# Altium footprint library Components - 08.07.23 - 16.41.PcbLib: 1 footprints
Each footprint in its own frame and in the unit in brackets; x right, y up, seen from the top. Pads: shape width x height; smd on the part's side, far side on the other; paste and mask are expansions set on the pad; w line width, h text height; cw(c..) or ccw(c..) is an arc to the next point about the centre after c.
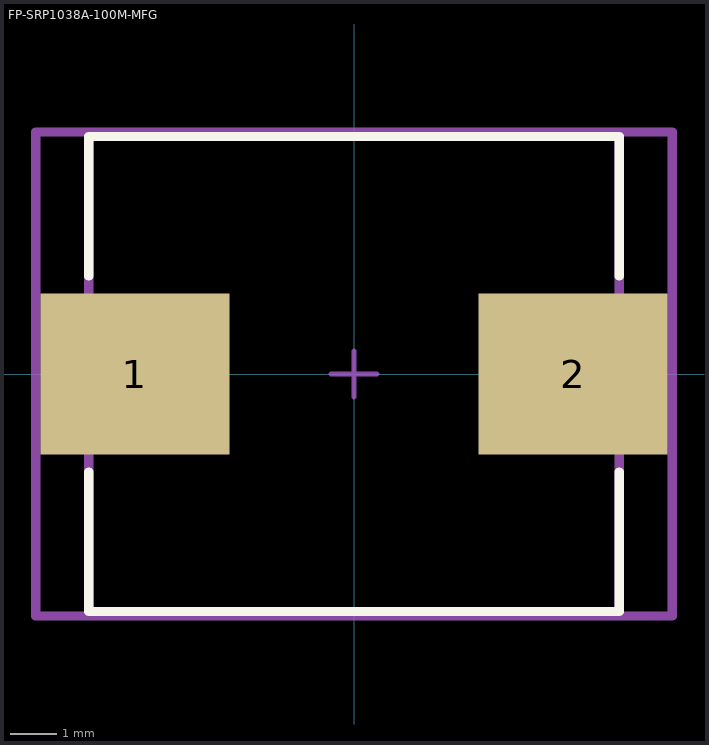
[diagram p0: the footprint, top view; thin cyan lines are the x and y axes]

## FP-SRP1038A-100M-MFG [mm]
pads (2):
  rect 4.1x3.5 smd paste+0 mask+0: 1(-4.75,0) 2(4.75,0)
Top Overlay:
  lines w0.2: -5.75,-2.125 -5.75,-5.15 5.75,-5.15 5.75,-2.125 ; -5.75,2.125 -5.75,5.15 5.75,5.15 5.75,2.125
Top Assembly:
  lines w0.2: -6.9,-5.25 -6.9,5.25 6.9,5.25 6.9,-5.25 -6.9,-5.25
  text ".Designator" at 0,0.188 h1
Top 3D Body:
  lines w0.2: -5.75,-5.15 -5.75,5.15 5.75,5.15 5.75,-5.15 -5.75,-5.15
Top Courtyard:
  lines w0.2: -6.9,-5.25 -6.9,5.25 6.9,5.25 6.9,-5.25 -6.9,-5.25
Top Component Center:
  lines w0.1: -0.5,0 0.5,0 ; 0,-0.5 0,0.5
3D body "Ind_Bourns_SRP1038A-100M_eec.STEP": height 0.25, standoff 0, extent -6.9,-5.25 6.9,5.25